# Altium footprint library Connectors_XT.PcbLib: 4 footprints
Each footprint in its own frame and in the unit in brackets; x right, y up, seen from the top. Pads: shape width x height; smd on the part's side, far side on the other; paste and mask are expansions set on the pad; w line width, h text height; cw(c..) or ccw(c..) is an arc to the next point about the centre after c.
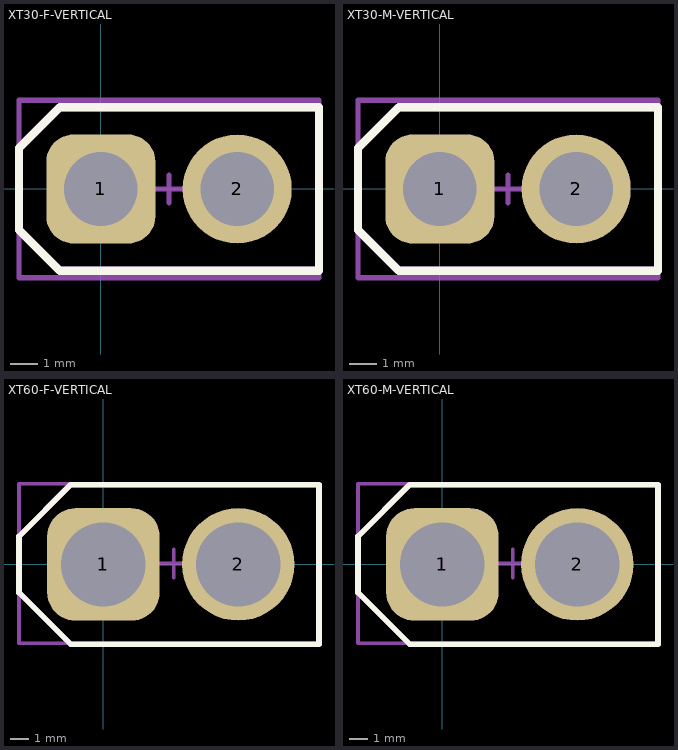
[diagram p0: the footprints below, top view; thin cyan lines are the x and y axes]

## XT30-F-VERTICAL [mm] "XT30 Female Connector"
pads (2):
  rrect50% 4x4 hole 2.7: 1(0,0)
  round 4 hole 2.7: 2(5,0)
Top Overlay:
  lines w0.3: -3,-1.5 -1.5,-3 8,-3 8,3 -1.5,3 -3,1.5 -3,-1.5
Mechanical 13:
  lines w0.3: -3,-1.5 -1.5,-3 8,-3 8,3 -1.5,3 -3,1.5 -3,-1.5
  text ".Designator" at -0.85,-2.321 h1.5
Mechanical 15:
  lines w0.2: 2,0 3,0 ; 2.5,-0.5 2.5,0.5 ; -3,-3.25 8,-3.25 8,3.25 -3,3.25 -3,-3.25
3D body "xt30-f.step": height 9.41, standoff -2.99, extent -2.6,-2.6 7.6,2.6

## XT30-M-VERTICAL [mm] "XT30 Male Connector"
pads (2):
  rrect50% 4x4 hole 2.7: 1(0,0)
  round 4 hole 2.7: 2(5,0)
Top Overlay:
  lines w0.3: -3,-1.5 -3,1.5 -1.5,3 8,3 8,-3 -1.5,-3 -3,-1.5
Mechanical 13:
  lines w0.3: -3,-1.5 -3,1.5 -1.5,3 8,3 8,-3 -1.5,-3 -3,-1.5
  text ".Designator" at -0.85,-2.321 h1.5
Mechanical 15:
  lines w0.2: 2,0 3,0 ; 2.5,-0.5 2.5,0.5 ; -3,-3.25 -3,3.25 8,3.25 8,-3.25 -3,-3.25
3D body "xt30upb-m.STEP": height 9.41, standoff -1.99, extent -2.6,-2.655 7.6,2.545

## XT60-F-VERTICAL [mm]
pads (2):
  rrect50% 6x6 hole 4.5: 1(0,0)
  round 6 hole 4.5: 2(7.2,0)
Top Overlay:
  lines w0.3: -4.5,-1.5 -4.5,1.5 -1.75,4.25 11.5,4.25 11.5,-4.25 -1.75,-4.25 -4.5,-1.5
Mechanical 13:
  lines w0.3: -4.5,-1.5 -4.5,1.5 -1.75,4.25 11.5,4.25 11.5,-4.25 -1.75,-4.25 -4.5,-1.5
  text ".Designator" at 0.15,-2.821 h1.5
Mechanical 15:
  lines w0.2: 3,0.05 4.5,0.05 ; 3.75,-0.7 3.75,0.8 ; -4.5,-4.2 -4.5,4.3 11.5,4.3 11.5,-4.2 -4.5,-4.2
3D body "XT60 female.step": height 17.21, standoff -4.99, extent -4.55,-4 11.35,4.15

## XT60-M-VERTICAL [mm]
pads (2):
  rrect50% 6x6 hole 4.5: 1(0,0)
  round 6 hole 4.5: 2(7.2,0)
Top Overlay:
  lines w0.3: -4.5,-1.5 -1.75,-4.25 11.5,-4.25 11.5,4.25 -1.75,4.25 -4.5,1.5 -4.5,-1.5
Mechanical 13:
  lines w0.3: -4.5,-1.5 -1.75,-4.25 11.5,-4.25 11.5,4.25 -1.75,4.25 -4.5,1.5 -4.5,-1.5
  text ".Designator" at 0.15,-2.821 h1.5
Mechanical 15:
  lines w0.2: 3,0.05 4.5,0.05 ; 3.75,-0.7 3.75,0.8 ; -4.5,-4.2 11.5,-4.2 11.5,4.3 -4.5,4.3 -4.5,-4.2
3D body "XT60 male.step": height 16.21, standoff -4.99, extent -4.45,-4.05 11.45,4.1